# EAGLE library part TM4C1294 (library texas-instruments)
tm4c1294ncpdt_ra0_tqfp_v0p1 edit this description Auto generated by make-symbol-device-package-bsdl.ulp Rev. 44 Source: tm4c1294ncpdt_ra0_tqfp_v0p1.bsdl
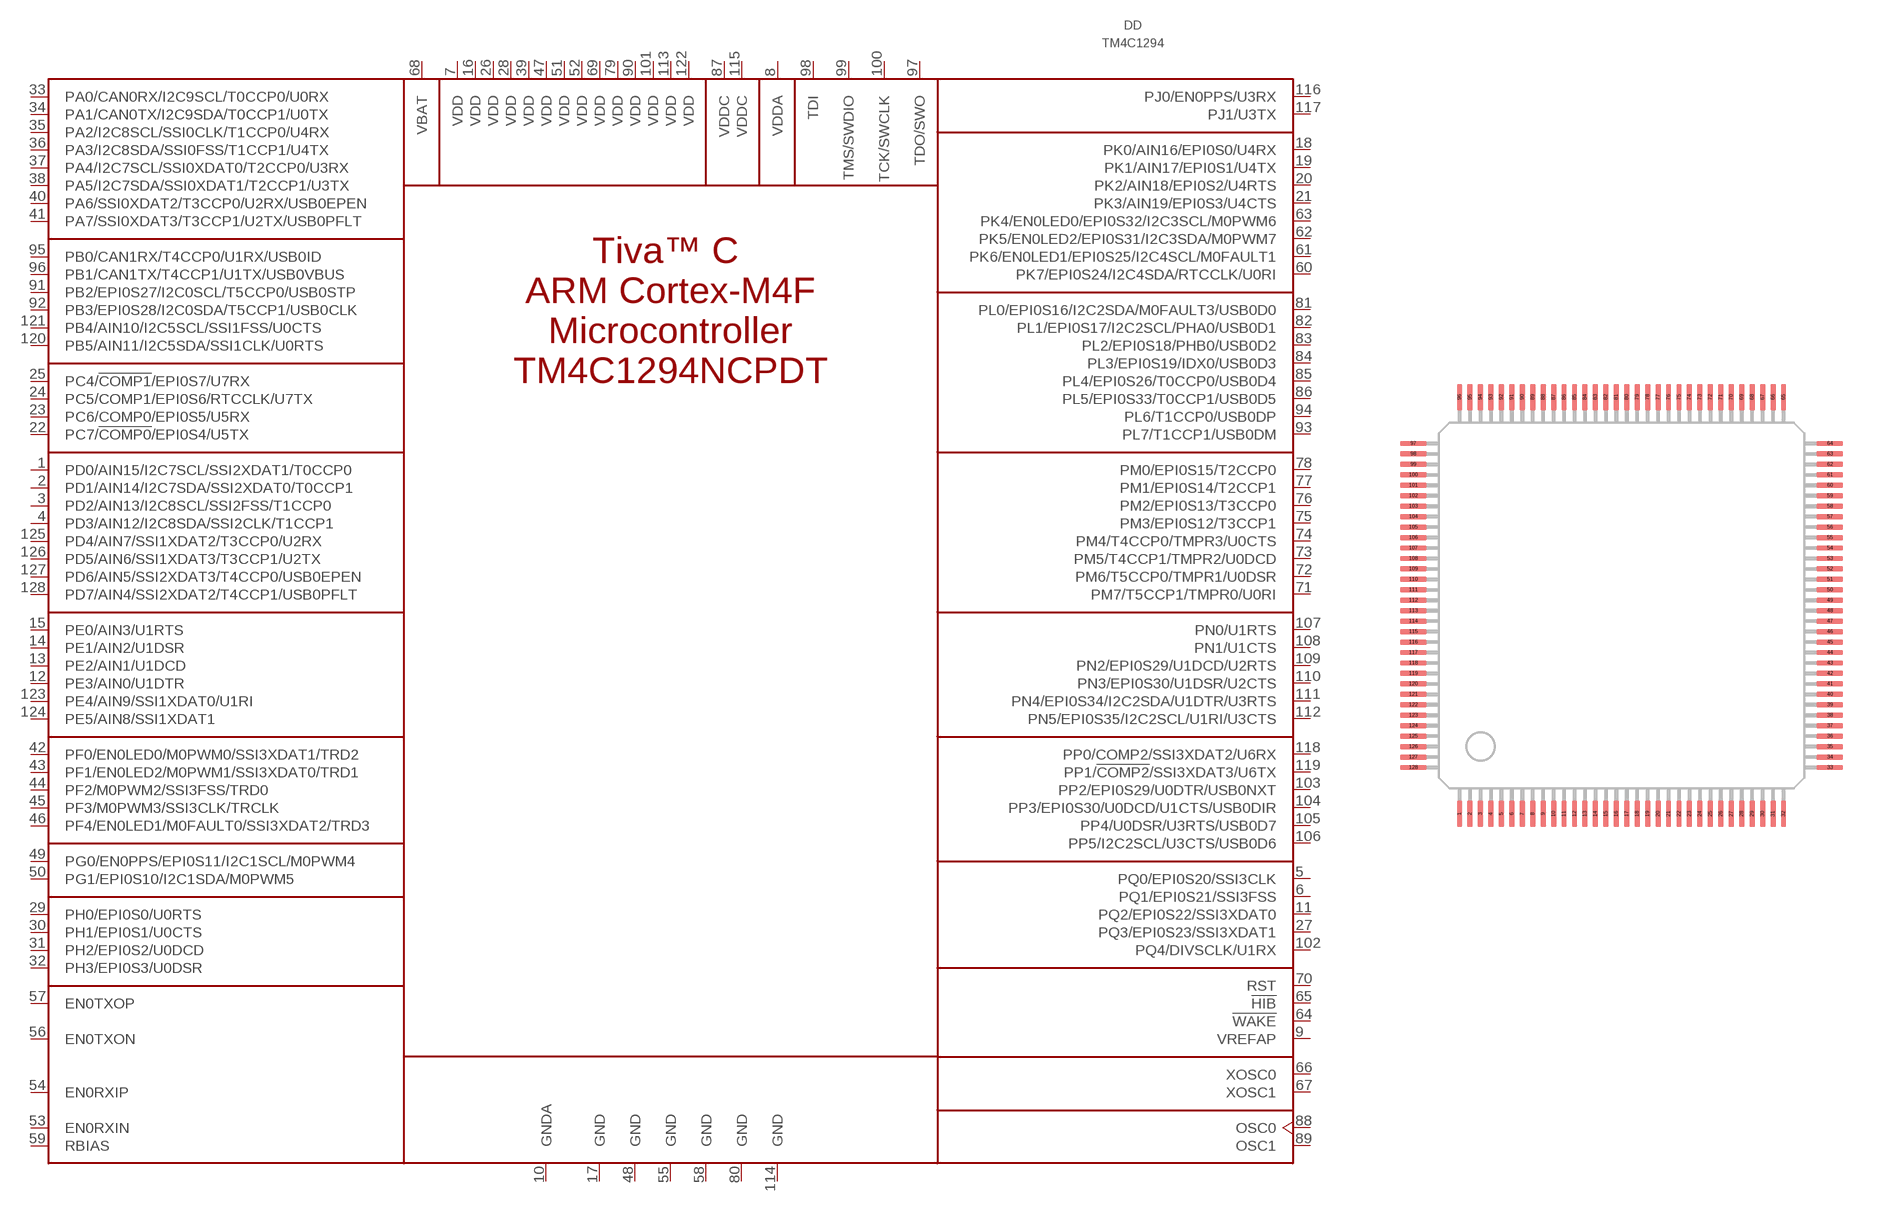
[diagram p2: symbol with the pads of TQFP128; footprint TQFP128]

Designator prefix DD

## TM4C1294NCPDT  [TQFP128]
1  PD0/AIN15/I2C7SCL/SSI2XDAT1/T0CCP0
2  PD1/AIN14/I2C7SDA/SSI2XDAT0/T0CCP1
3  PD2/AIN13/I2C8SCL/SSI2FSS/T1CCP0
4  PD3/AIN12/I2C8SDA/SSI2CLK/T1CCP1
5  PQ0/EPI0S20/SSI3CLK
6  PQ1/EPI0S21/SSI3FSS
7  VDD  pwr
8  VDDA  pwr
9  VREFAP  pas
10  GNDA  pwr
11  PQ2/EPI0S22/SSI3XDAT0
12  PE3/AIN0/U1DTR
13  PE2/AIN1/U1DCD
14  PE1/AIN2/U1DSR
15  PE0/AIN3/U1RTS
16  VDD  pwr
17  GND  pwr
18  PK0/AIN16/EPI0S0/U4RX
19  PK1/AIN17/EPI0S1/U4TX
20  PK2/AIN18/EPI0S2/U4RTS
21  PK3/AIN19/EPI0S3/U4CTS
22  PC7/!COMP0!/EPI0S4/U5TX
23  PC6/COMP0/EPI0S5/U5RX
24  PC5/COMP1/EPI0S6/RTCCLK/U7TX
25  PC4/!COMP1!/EPI0S7/U7RX
26  VDD  pwr
27  PQ3/EPI0S23/SSI3XDAT1
28  VDD  pwr
29  PH0/EPI0S0/U0RTS
30  PH1/EPI0S1/U0CTS
31  PH2/EPI0S2/U0DCD
32  PH3/EPI0S3/U0DSR
33  PA0/CAN0RX/I2C9SCL/T0CCP0/U0RX
34  PA1/CAN0TX/I2C9SDA/T0CCP1/U0TX
35  PA2/I2C8SCL/SSI0CLK/T1CCP0/U4RX
36  PA3/I2C8SDA/SSI0FSS/T1CCP1/U4TX
37  PA4/I2C7SCL/SSI0XDAT0/T2CCP0/U3RX
38  PA5/I2C7SDA/SSI0XDAT1/T2CCP1/U3TX
39  VDD  pwr
40  PA6/SSI0XDAT2/T3CCP0/U2RX/USB0EPEN
41  PA7/SSI0XDAT3/T3CCP1/U2TX/USB0PFLT
42  PF0/EN0LED0/M0PWM0/SSI3XDAT1/TRD2
43  PF1/EN0LED2/M0PWM1/SSI3XDAT0/TRD1
44  PF2/M0PWM2/SSI3FSS/TRD0
45  PF3/M0PWM3/SSI3CLK/TRCLK
46  PF4/EN0LED1/M0FAULT0/SSI3XDAT2/TRD3
47  VDD  pwr
48  GND  pwr
49  PG0/EN0PPS/EPI0S11/I2C1SCL/M0PWM4
50  PG1/EPI0S10/I2C1SDA/M0PWM5
51  VDD  pwr
52  VDD  pwr
53  EN0RXIN  pas
54  EN0RXIP  pas
55  GND  pwr
56  EN0TXON  pas
57  EN0TXOP  pas
58  GND  pwr
59  RBIAS  pas
60  PK7/EPI0S24/I2C4SDA/RTCCLK/U0RI
61  PK6/EN0LED1/EPI0S25/I2C4SCL/M0FAULT1
62  PK5/EN0LED2/EPI0S31/I2C3SDA/M0PWM7
63  PK4/EN0LED0/EPI0S32/I2C3SCL/M0PWM6
64  !WAKE  pas
65  !HIB  pas
66  XOSC0  pas
67  XOSC1  pas
68  VBAT  pas
69  VDD  pwr
70  RST  in
71  PM7/T5CCP1/TMPR0/U0RI
72  PM6/T5CCP0/TMPR1/U0DSR
73  PM5/T4CCP1/TMPR2/U0DCD
74  PM4/T4CCP0/TMPR3/U0CTS
75  PM3/EPI0S12/T3CCP1
76  PM2/EPI0S13/T3CCP0
77  PM1/EPI0S14/T2CCP1
78  PM0/EPI0S15/T2CCP0
79  VDD  pwr
80  GND  pwr
81  PL0/EPI0S16/I2C2SDA/M0FAULT3/USB0D0
82  PL1/EPI0S17/I2C2SCL/PHA0/USB0D1
83  PL2/EPI0S18/PHB0/USB0D2
84  PL3/EPI0S19/IDX0/USB0D3
85  PL4/EPI0S26/T0CCP0/USB0D4
86  PL5/EPI0S33/T0CCP1/USB0D5
87  VDDC  pwr
88  OSC0  pas
89  OSC1  pas
90  VDD  pwr
91  PB2/EPI0S27/I2C0SCL/T5CCP0/USB0STP
92  PB3/EPI0S28/I2C0SDA/T5CCP1/USB0CLK
93  PL7/T1CCP1/USB0DM
94  PL6/T1CCP0/USB0DP
95  PB0/CAN1RX/T4CCP0/U1RX/USB0ID
96  PB1/CAN1TX/T4CCP1/U1TX/USB0VBUS
97  TDO/SWO  out
98  TDI  in
99  TMS/SWDIO  in
100  TCK/SWCLK  in
101  VDD  pwr
102  PQ4/DIVSCLK/U1RX
103  PP2/EPI0S29/U0DTR/USB0NXT
104  PP3/EPI0S30/U0DCD/U1CTS/USB0DIR
105  PP4/U0DSR/U3RTS/USB0D7
106  PP5/I2C2SCL/U3CTS/USB0D6
107  PN0/U1RTS
108  PN1/U1CTS
109  PN2/EPI0S29/U1DCD/U2RTS
110  PN3/EPI0S30/U1DSR/U2CTS
111  PN4/EPI0S34/I2C2SDA/U1DTR/U3RTS
112  PN5/EPI0S35/I2C2SCL/U1RI/U3CTS
113  VDD  pwr
114  GND  pwr
115  VDDC  pwr
116  PJ0/EN0PPS/U3RX
117  PJ1/U3TX
118  PP0/COMP2/SSI3XDAT2/U6RX
119  PP1/!COMP2!/SSI3XDAT3/U6TX
120  PB5/AIN11/I2C5SDA/SSI1CLK/U0RTS
121  PB4/AIN10/I2C5SCL/SSI1FSS/U0CTS
122  VDD  pwr
123  PE4/AIN9/SSI1XDAT0/U1RI
124  PE5/AIN8/SSI1XDAT1
125  PD4/AIN7/SSI1XDAT2/T3CCP0/U2RX
126  PD5/AIN6/SSI1XDAT3/T3CCP1/U2TX
127  PD6/AIN5/SSI2XDAT3/T4CCP0/USB0EPEN
128  PD7/AIN4/SSI2XDAT2/T4CCP1/USB0PFLT

## Footprint TQFP128 (pad centres in mm)
smd 0.2 x 1: 1 -6.2,-7.975; 2 -5.8,-7.975; 3 -5.4,-7.975; 4 -5,-7.975; 5 -4.6,-7.975; 6 -4.2,-7.975; 7 -3.8,-7.975; 8 -3.4,-7.975; 9 -3,-7.975; 10 -2.6,-7.975; 11 -2.2,-7.975; 12 -1.8,-7.975; 13 -1.4,-7.975; 14 -1,-7.975; 15 -0.6,-7.975; 16 -0.2,-7.975; 17 0.2,-7.975; 18 0.6,-7.975; 19 1,-7.975; 20 1.4,-7.975; 21 1.8,-7.975; 22 2.2,-7.975; 23 2.6,-7.975; 24 3,-7.975; 25 3.4,-7.975; 26 3.8,-7.975; 27 4.2,-7.975; 28 4.6,-7.975; 29 5,-7.975; 30 5.4,-7.975; 31 5.8,-7.975; 32 6.2,-7.975; 65 6.2,7.975; 66 5.8,7.975; 67 5.4,7.975; 68 5,7.975; 69 4.6,7.975; 70 4.2,7.975; 71 3.8,7.975; 72 3.4,7.975; 73 3,7.975; 74 2.6,7.975; 75 2.2,7.975; 76 1.8,7.975; 77 1.4,7.975; 78 1,7.975; 79 0.6,7.975; 80 0.2,7.975; 81 -0.2,7.975; 82 -0.6,7.975; 83 -1,7.975; 84 -1.4,7.975; 85 -1.8,7.975; 86 -2.2,7.975; 87 -2.6,7.975; 88 -3,7.975; 89 -3.4,7.975; 90 -3.8,7.975; 91 -4.2,7.975; 92 -4.6,7.975; 93 -5,7.975; 94 -5.4,7.975; 95 -5.8,7.975; 96 -6.2,7.975
smd 1 x 0.2: 33 7.975,-6.2; 34 7.975,-5.8; 35 7.975,-5.4; 36 7.975,-5; 37 7.975,-4.6; 38 7.975,-4.2; 39 7.975,-3.8; 40 7.975,-3.4; 41 7.975,-3; 42 7.975,-2.6; 43 7.975,-2.2; 44 7.975,-1.8; 45 7.975,-1.4; 46 7.975,-1; 47 7.975,-0.6; 48 7.975,-0.2; 49 7.975,0.2; 50 7.975,0.6; 51 7.975,1; 52 7.975,1.4; 53 7.975,1.8; 54 7.975,2.2; 55 7.975,2.6; 56 7.975,3; 57 7.975,3.4; 58 7.975,3.8; 59 7.975,4.2; 60 7.975,4.6; 61 7.975,5; 62 7.975,5.4; 63 7.975,5.8; 64 7.975,6.2; 97 -7.975,6.2; 98 -7.975,5.8; 99 -7.975,5.4; 100 -7.975,5; 101 -7.975,4.6; 102 -7.975,4.2; 103 -7.975,3.8; 104 -7.975,3.4; 105 -7.975,3; 106 -7.975,2.6; 107 -7.975,2.2; 108 -7.975,1.8; 109 -7.975,1.4; 110 -7.975,1; 111 -7.975,0.6; 112 -7.975,0.2; 113 -7.975,-0.2; 114 -7.975,-0.6; 115 -7.975,-1; 116 -7.975,-1.4; 117 -7.975,-1.8; 118 -7.975,-2.2; 119 -7.975,-2.6; 120 -7.975,-3; 121 -7.975,-3.4; 122 -7.975,-3.8; 123 -7.975,-4.2; 124 -7.975,-4.6; 125 -7.975,-5; 126 -7.975,-5.4; 127 -7.975,-5.8; 128 -7.975,-6.2